# Altium footprint library RELAY.PcbLib: 1 footprints
Each footprint in its own frame and in the unit in brackets; x right, y up, seen from the top. Pads: shape width x height; smd on the part's side, far side on the other; paste and mask are expansions set on the pad; w line width, h text height; cw(c..) or ccw(c..) is an arc to the next point about the centre after c.
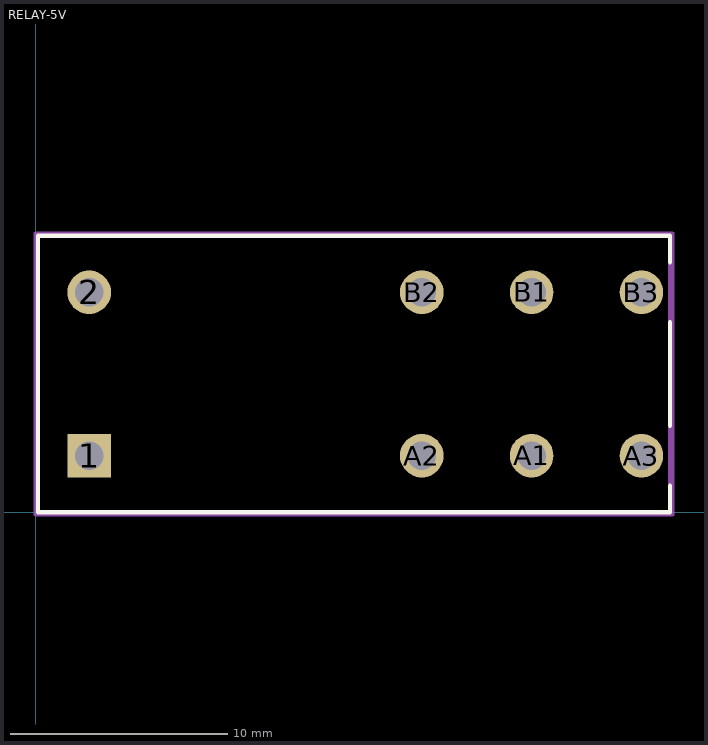
[diagram p0: the footprint, top view; thin cyan lines are the x and y axes]

## RELAY-5V [mm]
pads (8):
  rect 2x2 hole 1.3 paste-2539.97 mask+0: 1(2.455,2.6)
  round 2 hole 1.3 paste-2539.97 mask+0: 2(2.455,10.1) A1(22.755,2.6) A2(17.715,2.6) A3(27.795,2.6) B1(22.755,10.1) B2(17.715,10.1) B3(27.795,10.1)
Top Overlay:
  lines w0.2: 29.105,1.225 29.105,0 0.105,0 0.105,12.7 29.105,12.7 29.105,11.475 ; 29.105,3.975 29.105,8.725
Top Assembly:
  lines w0.2: 0.005,-0.1 29.205,-0.1 29.205,12.8 0.005,12.8 0.005,-0.1
Top 3D Body:
  lines w0.2: 0.105,0 29.105,0 29.105,12.7 0.105,12.7 0.105,0
Top Courtyard:
  lines w0.2: 0.005,-0.1 29.205,-0.1 29.205,12.8 0.005,12.8 0.005,-0.1
3D body "Relay_TE_Connectivity_RT424615_eec.STEP": height 0.25, standoff 0, extent 0.005,-0.1 29.205,12.8